# EAGLE library part GTL2002 (library PassTransistor)
GRL2002: 2-Bit Bidirectional Low Voltage Translator Specifications: Manufacturer: NXP Semiconductors Translator Type: Voltage Level Channel Type: Bidirectional Voltage - VCCA: 1V~5.5V Voltage - VCCB: 1V~5.5V Output Type: Open Drain Package: 8-SOIC Datasheet: GTL2002 <https://www.nxp.com/docs/en/data-sheet/GTL2002.pdf> Digi-Key Part #: 568-5019-1-ND <https://www.digikey.com/product-detail/en/nxp-usa-inc/GTL2002D118/568-5019-1-ND/2209933>
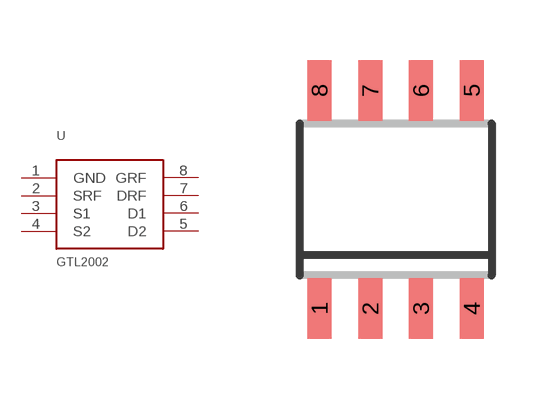
[diagram p3: symbol with the pads of SO-8; footprint SO-8]

Designator prefix U

## GTL2002  [SO-8]
1  GND  pwr
2  SRF  pwr
3  S1
4  S2
5  D2
6  D1
7  DRF  pwr
8  GRF  pwr

## Footprint SO-8 (pad centres in mm)
Small Outline Narrow Plastic Gull Wing SO-8 CASE 751-07 150-mil body, package type SN SOurce: http://www.onsemi.com/pub/Collateral/NUD4001-D.PDF
smd 0.6 x 1.52: 1 -1.905,-2.725; 2 -0.635,-2.725; 3 0.635,-2.725; 4 1.905,-2.725; 5 1.905,2.725; 6 0.635,2.725; 7 -0.635,2.725; 8 -1.905,2.725